# EAGLE library part SOIC8_200MIL_PROG (library attniy85_prog_shield)
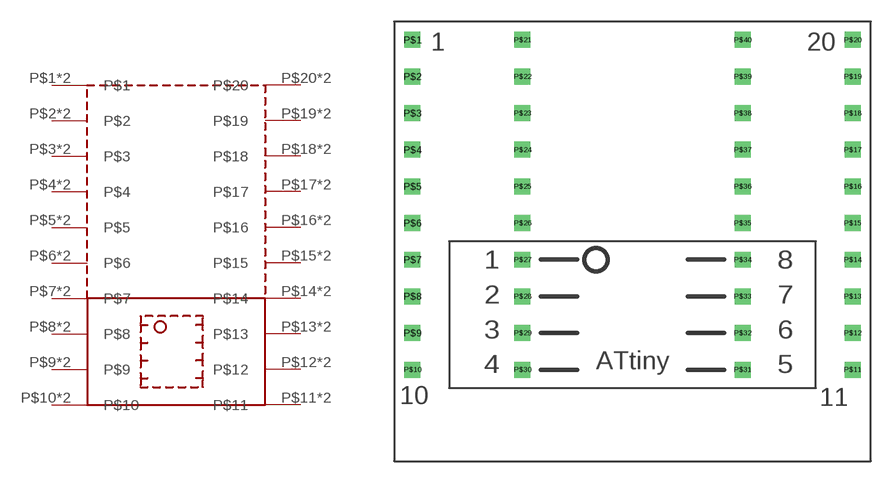
[diagram p6: symbol with the pads of SOIC8-200MIL; footprint SOIC8-200MIL]

Designator prefix -

## SOIC8_200MIL_PROG  [SOIC8-200MIL]
P$1  P$1
P$2  P$2
P$3  P$3
P$4  P$4
P$5  P$5
P$6  P$6
P$7  P$7
P$8  P$8
P$9  P$9
P$10  P$10
P$11  P$11
P$12  P$12
P$13  P$13
P$14  P$14
P$15  P$15
P$16  P$16
P$17  P$17
P$18  P$18
P$19  P$19
P$20  P$20
P$21  P$1
P$22  P$2
P$23  P$3
P$24  P$4
P$25  P$5
P$26  P$6
P$27  P$7
P$28  P$8
P$29  P$9
P$30  P$10
P$31  P$11
P$32  P$12
P$33  P$13
P$34  P$14
P$35  P$15
P$36  P$16
P$37  P$17
P$38  P$18
P$39  P$19
P$40  P$20

## Footprint SOIC8-200MIL (pad centres in mm)
drill 0.6 square: P$1 1.27,29.21; P$2 1.27,26.67; P$3 1.27,24.13; P$4 1.27,21.59; P$5 1.27,19.05; P$6 1.27,16.51; P$7 1.27,13.97; P$8 1.27,11.43; P$9 1.27,8.89; P$10 1.27,6.35; P$11 31.75,6.35; P$12 31.75,8.89; P$13 31.75,11.43; P$14 31.75,13.97; P$15 31.75,16.51; P$16 31.75,19.05; P$17 31.75,21.59; P$18 31.75,24.13; P$19 31.75,26.67; P$20 31.75,29.21; P$21 8.89,29.21; P$22 8.89,26.67; P$23 8.89,24.13; P$24 8.89,21.59; P$25 8.89,19.05; P$26 8.89,16.51; P$27 8.89,13.97; P$28 8.89,11.43; P$29 8.89,8.89; P$30 8.89,6.35; P$31 24.13,6.35; P$32 24.13,8.89; P$33 24.13,11.43; P$34 24.13,13.97; P$35 24.13,16.51; P$36 24.13,19.05; P$37 24.13,21.59; P$38 24.13,24.13; P$39 24.13,26.67; P$40 24.13,29.21